# Altium schematic symbol library 50YXJ100MT78X11P5.SchLib: 2 symbols
Pins are listed as number, name and electrical type; pins without a type are passive.

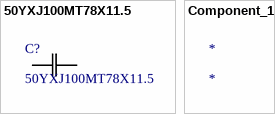
[diagram p0: symbols 50YXJ100MT78X11.5 to Component_1]

## 50YXJ100MT78X11.5
designator C?
No Description Available; Manufacturer_Name: Rubycon; Copyright: Copyright (C) 2025 Ultra Librarian. All rights reserved.; Manufacturer_Part_Number: 50YXJ100MT78X11.5
footprint CAP_YX_8X11P5_RUB
pins: 1, 2

## Component_1
designator *